# EAGLE library part ATTINY204 (library wolfi)
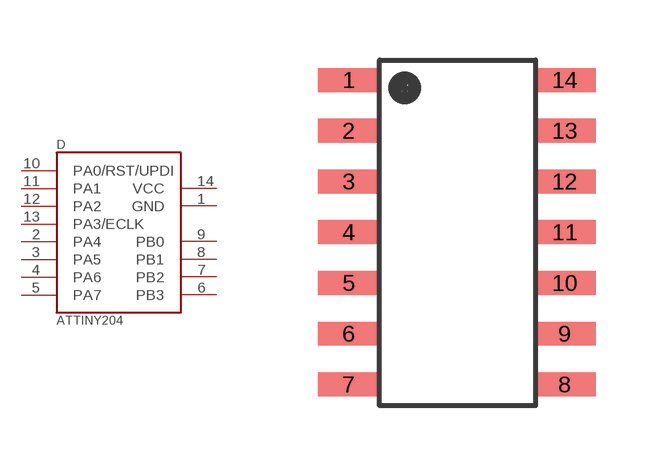
[diagram p34: symbol with the pads of SOIC14; footprint SOIC14]

Designator prefix D

## ATTINY204  [SOIC14]
1  GND  pwr
2  PA4
3  PA5
4  PA6
5  PA7
6  PB3
7  PB2
8  PB1
9  PB0
10  PA0/RST/UPDI
11  PA1
12  PA2
13  PA3/ECLK
14  VCC  pwr

## Footprint SOIC14 (pad centres in mm)
smd 1.55 x 0.6: 1 0,0; 2 0,-1.27; 3 0,-2.54; 4 0,-3.81; 5 0,-5.08; 6 0,-6.35; 7 0,-7.62; 8 5.4,-7.62; 9 5.4,-6.35; 10 5.4,-5.08; 11 5.4,-3.81; 12 5.4,-2.54; 13 5.4,-1.27; 14 5.4,0